# EAGLE library part ST1S09I (library X893)
http://www.terraelectronica.ru/pdf/ST/ST1S09.pdf
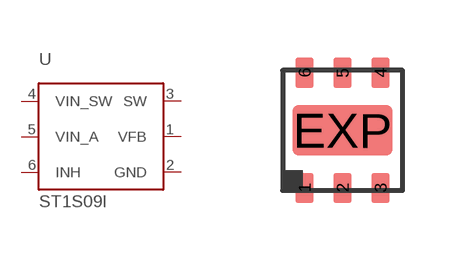
[diagram p74: symbol with the pads of DFN6; footprint DFN6]

Designator prefix U

## ST1S09I  [DFN6]
1  VFB  pas
2  GND  pwr
3  SW  pas
4  VIN_SW  pas
5  VIN_A  pas
6  INH  in
EXP  GND  pwr

## Footprint DFN6 (pad centres in mm)
smd 0.45 x 0.75: 1 -0.95,-1.438; 2 0,-1.438; 3 0.95,-1.438; 4 0.95,1.438; 5 0,1.438; 6 -0.95,1.438
smd 2.5 x 1.25: EXP 0,0